# EAGLE library part PESD3V3L4UF,115 (library PESD3V3L4UF_115)
Low capacitance unidirectional quadruple ESD protection diode arrays Source: Datasheet <https://assets.nexperia.com/documents/data-sheet/PESDXL4UF_G_W.pdf>
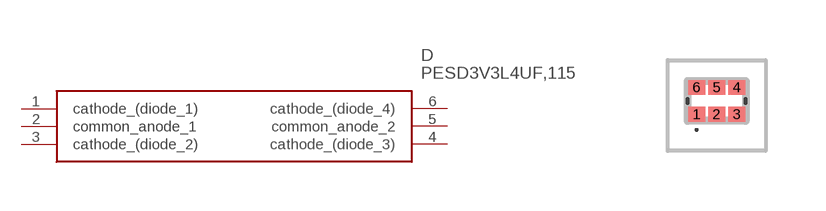
[diagram p0: symbol with the pads of PESD3V3L5UF115; footprint PESD3V3L5UF115]

Designator prefix D

## PESD3V3L4UF,115 (Arrow_Part_Number: PESD3V3L4UF,115; Arrow_Price-Stock: https://www.arrow.com/en/products/pesd3v3l4uf115/nexperia?region=europe; Description: Low capacitance unidirectional quadruple ESD protection diode arrays; Height: 0.5mm; Manufacturer_Name: Nexperia; Manufacturer_Part_Number: PESD3V3L4UF,115; Mouser_Part_Number: 771-PESD3V3L4UFT/R; Mouser_Price-Stock: https://www.mouser.co.uk/ProductDetail/Nexperia/PESD3V3L4UF115?qs=LOCUfHb8d9tNJS4807IAKw%3D%3D)  [PESD3V3L5UF115]
1  cathode_(diode_1)
2  common_anode_1
3  cathode_(diode_2)
4  cathode_(diode_3)
5  common_anode_2
6  cathode_(diode_4)

## Footprint PESD3V3L5UF115 (pad centres in mm)
SOT886
smd 0.425 x 0.37: 1 -0.5,-0.337; 2 0,-0.337; 3 0.5,-0.337; 4 0.5,0.337; 5 0,0.337; 6 -0.5,0.337